# EAGLE library part 4504 (library _mtvl.logic)
TTL or CMOS to CMOS hex LEVEL SHIFTER
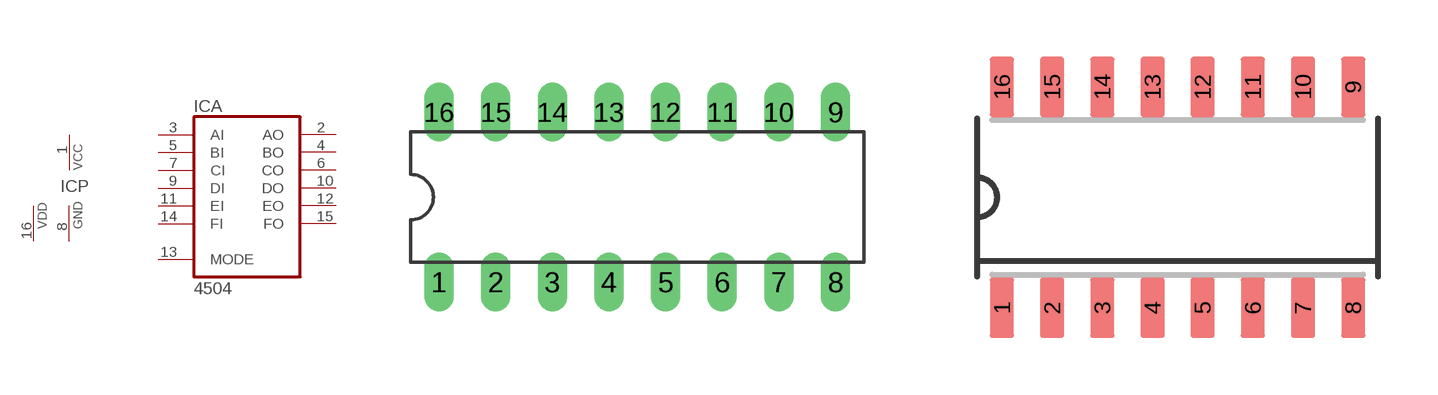
[diagram p4: symbol with the pads of DIL16; footprints DIL16, SO16]

Designator prefix IC; gates A=4504 P=PWR+VCC

## 4504N  [DIL16]
1  P:VCC  pwr
2  A:AO  out
3  A:AI  in
4  A:BO  out
5  A:BI  in
6  A:CO  out
7  A:CI  in
8  P:GND  pwr
9  A:DI  in
10  A:DO  out
11  A:EI  in
12  A:EO  out
13  A:MODE  in
14  A:FI  in
15  A:FO  out
16  P:VDD  pwr

## 4504D  [SO16]
Pads as for DIL16

## Footprint DIL16 (pad centres in mm)
Dual In Line Package
drill 0.813 long: 1 -8.89,-3.81; 2 -6.35,-3.81; 3 -3.81,-3.81; 4 -1.27,-3.81; 5 1.27,-3.81; 6 3.81,-3.81; 7 6.35,-3.81; 8 8.89,-3.81; 9 8.89,3.81; 10 6.35,3.81; 11 3.81,3.81; 12 1.27,3.81; 13 -1.27,3.81; 14 -3.81,3.81; 15 -6.35,3.81; 16 -8.89,3.81

## Footprint SO16 (pad centres in mm)
Small Outline package 150 mil
smd 0.61 x 1.524: 1 -4.445,-2.794; 2 -3.175,-2.794; 3 -1.905,-2.794; 4 -0.635,-2.794; 5 0.635,-2.794; 6 1.905,-2.794; 7 3.175,-2.794; 8 4.445,-2.794; 9 4.445,2.794; 10 3.175,2.794; 11 1.905,2.794; 12 0.635,2.794; 13 -0.635,2.794; 14 -1.905,2.794; 15 -3.175,2.794; 16 -4.445,2.794